# EAGLE library part HARWIN_M503100545-SMT-HEADER (library BMS (v6))
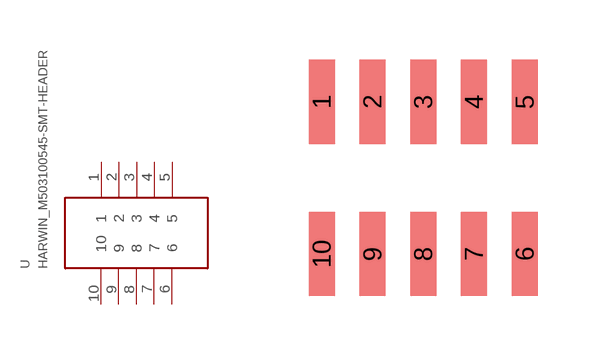
[diagram p2: symbol with the pads of HARWIN_M50-3100545; footprint HARWIN_M50-3100545]

Designator prefix -

## HARWIN_M503100545-SMT-HEADER  [HARWIN_M50-3100545]
1  1
2  2
3  3
4  4
5  5
6  6
7  7
8  8
9  9
10  10

## Footprint HARWIN_M50-3100545 (pad centres in mm)
smd 0.65 x 2.1: 1 -2.54,1.8; 2 -1.27,1.8; 3 0,1.8; 4 1.27,1.8; 5 2.54,1.8; 6 2.54,-2.01; 7 1.27,-2.01; 8 0,-2.01; 9 -1.27,-2.01; 10 -2.54,-2.01